# Altium schematic symbol library jlcpcb_2025_04_capacitors_extended_1812.schlib: 342 symbols (part 4 of 7)
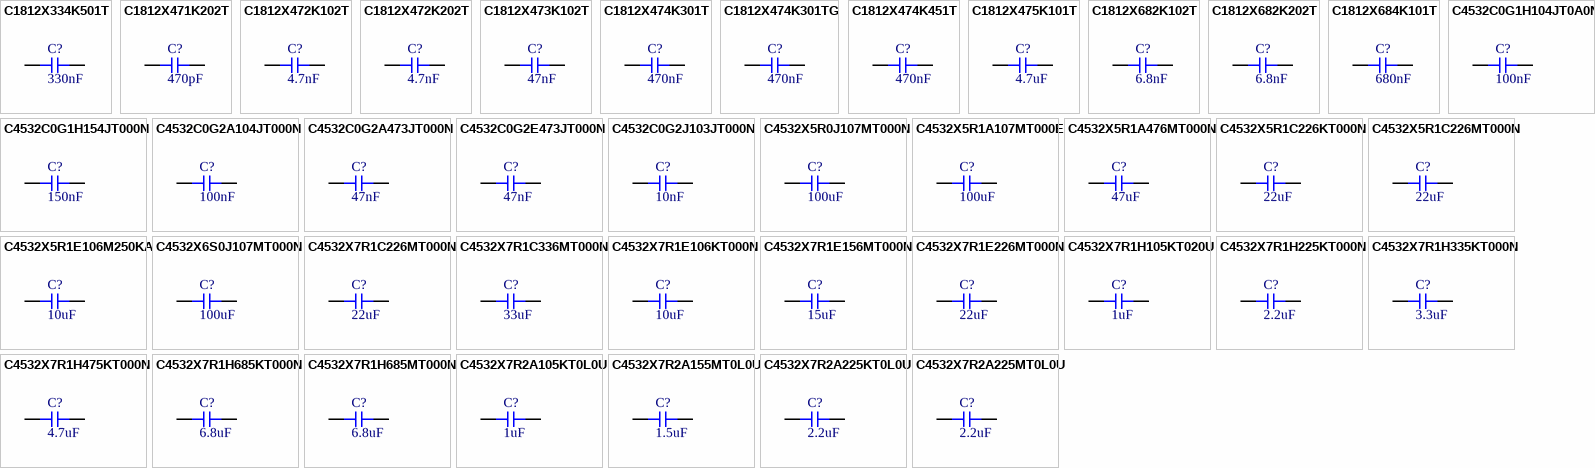
[diagram p11: symbols C1812X334K501T to C4532X7R2A225MT0L0U]

## C4532X7R1E156MT000N
designator C?  Capacitance: 15uF  (hidden comment: *)
Capacitor, Ceramic (MLCC), 15uF, ±20%, 25V, X7R, ±20%, SMD 1812; Manufacturer: TDK; Manufacturer Part Number: C4532X7R1E156MT000N; Package Size: 1812; JLCPCB Basic Part: No; JLCPCB Part Number: C342618; Supplier 1: LCSC; Category: Capacitors - MLCC; Supplier Part Number 1: C342618; Tolerance: ±20%; Voltage Rating: 25V; Temperature Coefficient: X7R; RoHS: Yes; ComponentLink1Description: Datasheet; ComponentLink1URL: https://wmsc.lcsc.com/wmsc/upload/file/pdf/v2/lcsc/2304140030_TDK-C4532X7R1E156MT000N_C342618.pdf; ComponentLink2Description: JLCPCB Part URL; ComponentLink2URL: https://jlcpcb.com/partdetail/C342618; ComponentLink3Description: LCSC Part URL; ComponentLink3URL: https://lcsc.com/product-detail/Multilayer-Ceramic-Capacitors-MLCC---SMD-SMT_TDK-TDK-C4532X7R1E156MT000N_C342618.html
footprint CAP-1812 (1812 (4532M) Capacitor)
pins: 1, 2

## C4532X7R1E226MT000N
designator C?  Capacitance: 22uF  (hidden comment: *)
Capacitor, Ceramic (MLCC), 22uF, ±20%, 25V, X7R, ±20%, SMD 1812; Manufacturer: TDK; Manufacturer Part Number: C4532X7R1E226MT000N; Package Size: 1812; JLCPCB Basic Part: No; JLCPCB Part Number: C76690; Supplier 1: LCSC; Category: Capacitors - MLCC; Supplier Part Number 1: C76690; Tolerance: ±20%; Voltage Rating: 25V; Temperature Coefficient: X7R; RoHS: Yes; ComponentLink1Description: Datasheet; ComponentLink1URL: https://wmsc.lcsc.com/wmsc/upload/file/pdf/v2/lcsc/2304140030_TDK-C4532X7R1E226MT000N_C76690.pdf; ComponentLink2Description: JLCPCB Part URL; ComponentLink2URL: https://jlcpcb.com/partdetail/C76690; ComponentLink3Description: LCSC Part URL; ComponentLink3URL: https://lcsc.com/product-detail/Multilayer-Ceramic-Capacitors-MLCC---SMD-SMT_TDK-TDK-C4532X7R1E226MT000N_C76690.html
footprint CAP-1812 (1812 (4532M) Capacitor)
pins: 1, 2

## C4532X7R1H105KT020U
designator C?  Capacitance: 1uF  (hidden comment: *)
Capacitor, Ceramic (MLCC), 1uF, ±10%, 50V, X7R, ±10%, SMD 1812; Manufacturer: TDK; Manufacturer Part Number: C4532X7R1H105KT020U; Package Size: 1812; JLCPCB Basic Part: No; JLCPCB Part Number: C694201; Supplier 1: LCSC; Category: Capacitors - MLCC; Supplier Part Number 1: C694201; Tolerance: ±10%; Voltage Rating: 50V; Temperature Coefficient: X7R; RoHS: Yes; ComponentLink1Description: Datasheet; ComponentLink1URL: https://wmsc.lcsc.com/wmsc/upload/file/pdf/v2/lcsc/2304140030_TDK-C4532X7R1H105KT020U_C694201.pdf; ComponentLink2Description: JLCPCB Part URL; ComponentLink2URL: https://jlcpcb.com/partdetail/C694201; ComponentLink3Description: LCSC Part URL; ComponentLink3URL: https://lcsc.com/product-detail/Multilayer-Ceramic-Capacitors-MLCC---SMD-SMT_TDK-TDK-C4532X7R1H105KT020U_C694201.html
footprint CAP-1812 (1812 (4532M) Capacitor)
pins: 1, 2

## C4532X7R1H225KT000N
designator C?  Capacitance: 2.2uF  (hidden comment: *)
Capacitor, Ceramic (MLCC), 2.2uF, ±10%, 50V, X7R, ±10%, SMD 1812; Manufacturer: TDK; Manufacturer Part Number: C4532X7R1H225KT000N; Package Size: 1812; JLCPCB Basic Part: No; JLCPCB Part Number: C342654; Supplier 1: LCSC; Category: Capacitors - MLCC; Supplier Part Number 1: C342654; Tolerance: ±10%; Voltage Rating: 50V; Temperature Coefficient: X7R; RoHS: Yes; ComponentLink1Description: Datasheet; ComponentLink1URL: https://wmsc.lcsc.com/wmsc/upload/file/pdf/v2/lcsc/2304140030_TDK-C4532X7R1H225KT000N_C342654.pdf; ComponentLink2Description: JLCPCB Part URL; ComponentLink2URL: https://jlcpcb.com/partdetail/C342654; ComponentLink3Description: LCSC Part URL; ComponentLink3URL: https://lcsc.com/product-detail/Multilayer-Ceramic-Capacitors-MLCC---SMD-SMT_TDK-TDK-C4532X7R1H225KT000N_C342654.html
footprint CAP-1812 (1812 (4532M) Capacitor)
pins: 1, 2

## C4532X7R1H335KT000N
designator C?  Capacitance: 3.3uF  (hidden comment: *)
Capacitor, Ceramic (MLCC), 3.3uF, ±10%, 50V, X7R, ±10%, SMD 1812; Manufacturer: TDK; Manufacturer Part Number: C4532X7R1H335KT000N; Package Size: 1812; JLCPCB Basic Part: No; JLCPCB Part Number: C342636; Supplier 1: LCSC; Category: Capacitors - MLCC; Supplier Part Number 1: C342636; Tolerance: ±10%; Voltage Rating: 50V; Temperature Coefficient: X7R; RoHS: Yes; ComponentLink1Description: Datasheet; ComponentLink1URL: https://wmsc.lcsc.com/wmsc/upload/file/pdf/v2/lcsc/2304140030_TDK-C4532X7R1H335KT000N_C342636.pdf; ComponentLink2Description: JLCPCB Part URL; ComponentLink2URL: https://jlcpcb.com/partdetail/C342636; ComponentLink3Description: LCSC Part URL; ComponentLink3URL: https://lcsc.com/product-detail/Multilayer-Ceramic-Capacitors-MLCC---SMD-SMT_TDK-TDK-C4532X7R1H335KT000N_C342636.html
footprint CAP-1812 (1812 (4532M) Capacitor)
pins: 1, 2

## C4532X7R1H475KT000N
designator C?  Capacitance: 4.7uF  (hidden comment: *)
Capacitor, Ceramic (MLCC), 4.7uF, ±10%, 50V, X7R, ±10%, SMD 1812; Manufacturer: TDK; Manufacturer Part Number: C4532X7R1H475KT000N; Package Size: 1812; JLCPCB Basic Part: No; JLCPCB Part Number: C342629; Supplier 1: LCSC; Category: Capacitors - MLCC; Supplier Part Number 1: C342629; Tolerance: ±10%; Voltage Rating: 50V; Temperature Coefficient: X7R; RoHS: Yes; ComponentLink1Description: Datasheet; ComponentLink1URL: https://wmsc.lcsc.com/wmsc/upload/file/pdf/v2/lcsc/2304140030_TDK-C4532X7R1H475KT000N_C342629.pdf; ComponentLink2Description: JLCPCB Part URL; ComponentLink2URL: https://jlcpcb.com/partdetail/C342629; ComponentLink3Description: LCSC Part URL; ComponentLink3URL: https://lcsc.com/product-detail/Multilayer-Ceramic-Capacitors-MLCC---SMD-SMT_TDK-TDK-C4532X7R1H475KT000N_C342629.html
footprint CAP-1812 (1812 (4532M) Capacitor)
pins: 1, 2

## C4532X7R1H685KT000N
designator C?  Capacitance: 6.8uF  (hidden comment: *)
Capacitor, Ceramic (MLCC), 6.8uF, ±10%, 50V, X7R, ±10%, SMD 1812; Manufacturer: TDK; Manufacturer Part Number: C4532X7R1H685KT000N; Package Size: 1812; JLCPCB Basic Part: No; JLCPCB Part Number: C342619; Supplier 1: LCSC; Category: Capacitors - MLCC; Supplier Part Number 1: C342619; Tolerance: ±10%; Voltage Rating: 50V; Temperature Coefficient: X7R; RoHS: Yes; ComponentLink1Description: Datasheet; ComponentLink1URL: https://wmsc.lcsc.com/wmsc/upload/file/pdf/v2/lcsc/2304140030_TDK-C4532X7R1H685KT000N_C342619.pdf; ComponentLink2Description: JLCPCB Part URL; ComponentLink2URL: https://jlcpcb.com/partdetail/C342619; ComponentLink3Description: LCSC Part URL; ComponentLink3URL: https://lcsc.com/product-detail/Multilayer-Ceramic-Capacitors-MLCC---SMD-SMT_TDK-TDK-C4532X7R1H685KT000N_C342619.html
footprint CAP-1812 (1812 (4532M) Capacitor)
pins: 1, 2

## C4532X7R1H685MT000N
designator C?  Capacitance: 6.8uF  (hidden comment: *)
Capacitor, Ceramic (MLCC), 6.8uF, ±20%, 50V, X7R, ±20%, SMD 1812; Manufacturer: TDK; Manufacturer Part Number: C4532X7R1H685MT000N; Package Size: 1812; JLCPCB Basic Part: No; JLCPCB Part Number: C445683; Supplier 1: LCSC; Category: Capacitors - MLCC; Supplier Part Number 1: C445683; Tolerance: ±20%; Voltage Rating: 50V; Temperature Coefficient: X7R; RoHS: Yes; ComponentLink1Description: Datasheet; ComponentLink1URL: https://wmsc.lcsc.com/wmsc/upload/file/pdf/v2/lcsc/2304140030_TDK-C4532X7R1H685MT000N_C445683.pdf; ComponentLink2Description: JLCPCB Part URL; ComponentLink2URL: https://jlcpcb.com/partdetail/C445683; ComponentLink3Description: LCSC Part URL; ComponentLink3URL: https://lcsc.com/product-detail/Multilayer-Ceramic-Capacitors-MLCC---SMD-SMT_TDK-TDK-C4532X7R1H685MT000N_C445683.html
footprint CAP-1812 (1812 (4532M) Capacitor)
pins: 1, 2

## C4532X7R2A105KT0L0U
designator C?  Capacitance: 1uF  (hidden comment: *)
Capacitor, Ceramic (MLCC), 1uF, ±10%, 100V, X7R, ±10%, SMD 1812; Manufacturer: TDK; Manufacturer Part Number: C4532X7R2A105KT0L0U; Package Size: 1812; JLCPCB Basic Part: No; JLCPCB Part Number: C694477; Supplier 1: LCSC; Category: Capacitors - MLCC; Supplier Part Number 1: C694477; Tolerance: ±10%; Voltage Rating: 100V; Temperature Coefficient: X7R; RoHS: Yes; ComponentLink1Description: Datasheet; ComponentLink1URL: https://wmsc.lcsc.com/wmsc/upload/file/pdf/v2/lcsc/2304140030_TDK-C4532X7R2A105KT0L0U_C694477.pdf; ComponentLink2Description: JLCPCB Part URL; ComponentLink2URL: https://jlcpcb.com/partdetail/C694477; ComponentLink3Description: LCSC Part URL; ComponentLink3URL: https://lcsc.com/product-detail/Multilayer-Ceramic-Capacitors-MLCC---SMD-SMT_TDK-TDK-C4532X7R2A105KT0L0U_C694477.html
footprint CAP-1812 (1812 (4532M) Capacitor)
pins: 1, 2

## C4532X7R2A155MT0L0U
designator C?  Capacitance: 1.5uF  (hidden comment: *)
Capacitor, Ceramic (MLCC), 1.5uF, ±20%, 100V, X7R, ±20%, SMD 1812; Manufacturer: TDK; Manufacturer Part Number: C4532X7R2A155MT0L0U; Package Size: 1812; JLCPCB Basic Part: No; JLCPCB Part Number: C432932; Supplier 1: LCSC; Category: Capacitors - MLCC; Supplier Part Number 1: C432932; Tolerance: ±20%; Voltage Rating: 100V; Temperature Coefficient: X7R; RoHS: Yes; ComponentLink1Description: Datasheet; ComponentLink1URL: https://wmsc.lcsc.com/wmsc/upload/file/pdf/v2/lcsc/2001091702_TDK-C4532X7R2A155MT0L0U_C432932.pdf; ComponentLink2Description: JLCPCB Part URL; ComponentLink2URL: https://jlcpcb.com/partdetail/C432932; ComponentLink3Description: LCSC Part URL; ComponentLink3URL: https://lcsc.com/product-detail/Multilayer-Ceramic-Capacitors-MLCC---SMD-SMT_TDK-TDK-C4532X7R2A155MT0L0U_C432932.html
footprint CAP-1812 (1812 (4532M) Capacitor)
pins: 1, 2

## C4532X7R2A225KT0L0U
designator C?  Capacitance: 2.2uF  (hidden comment: *)
Capacitor, Ceramic (MLCC), 2.2uF, ±10%, 100V, X7R, ±10%, SMD 1812; Manufacturer: TDK; Manufacturer Part Number: C4532X7R2A225KT0L0U; Package Size: 1812; JLCPCB Basic Part: No; JLCPCB Part Number: C329963; Supplier 1: LCSC; Category: Capacitors - MLCC; Supplier Part Number 1: C329963; Tolerance: ±10%; Voltage Rating: 100V; Temperature Coefficient: X7R; RoHS: Yes; ComponentLink1Description: Datasheet; ComponentLink1URL: https://wmsc.lcsc.com/wmsc/upload/file/pdf/v2/lcsc/2304140030_TDK-C4532X7R2A225KT0L0U_C329963.pdf; ComponentLink2Description: JLCPCB Part URL; ComponentLink2URL: https://jlcpcb.com/partdetail/C329963; ComponentLink3Description: LCSC Part URL; ComponentLink3URL: https://lcsc.com/product-detail/Multilayer-Ceramic-Capacitors-MLCC---SMD-SMT_TDK-TDK-C4532X7R2A225KT0L0U_C329963.html
footprint CAP-1812 (1812 (4532M) Capacitor)
pins: 1, 2

## C4532X7R2A225MT0L0U
designator C?  Capacitance: 2.2uF  (hidden comment: *)
Capacitor, Ceramic (MLCC), 2.2uF, ±20%, 100V, X7R, ±20%, SMD 1812; Manufacturer: TDK; Manufacturer Part Number: C4532X7R2A225MT0L0U; Package Size: 1812; JLCPCB Basic Part: No; JLCPCB Part Number: C342647; Supplier 1: LCSC; Category: Capacitors - MLCC; Supplier Part Number 1: C342647; Tolerance: ±20%; Voltage Rating: 100V; Temperature Coefficient: X7R; RoHS: Yes; ComponentLink1Description: Datasheet; ComponentLink1URL: https://wmsc.lcsc.com/wmsc/upload/file/pdf/v2/lcsc/2304140030_TDK-C4532X7R2A225MT0L0U_C342647.pdf; ComponentLink2Description: JLCPCB Part URL; ComponentLink2URL: https://jlcpcb.com/partdetail/C342647; ComponentLink3Description: LCSC Part URL; ComponentLink3URL: https://lcsc.com/product-detail/Multilayer-Ceramic-Capacitors-MLCC---SMD-SMT_TDK-TDK-C4532X7R2A225MT0L0U_C342647.html
footprint CAP-1812 (1812 (4532M) Capacitor)
pins: 1, 2

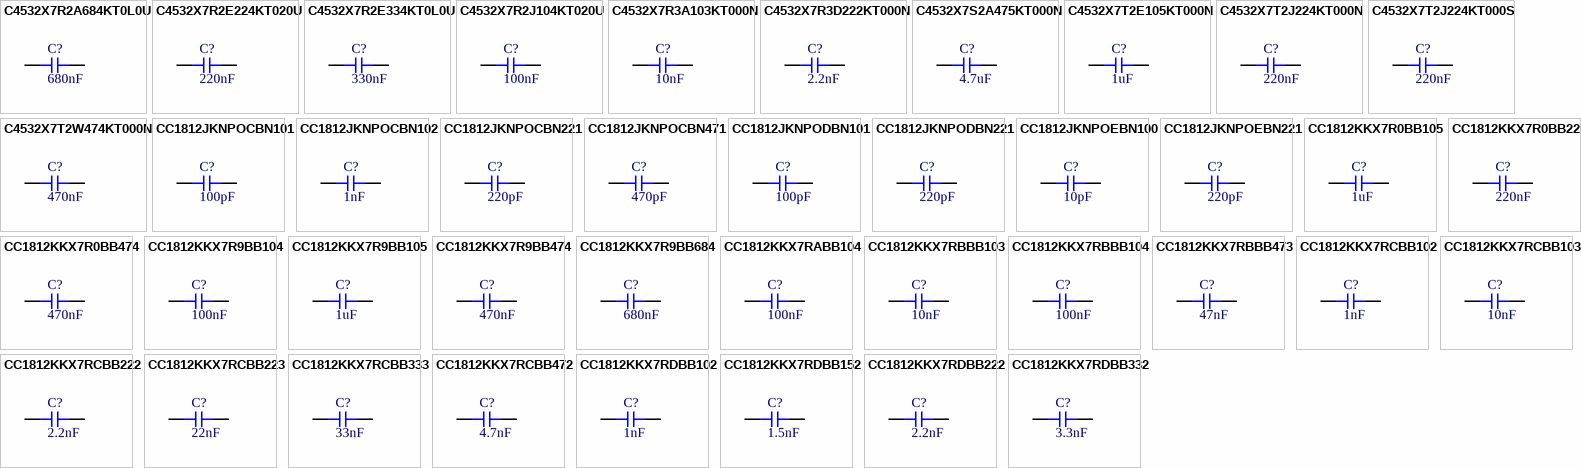
[diagram p4: symbols C4532X7R2A684KT0L0U to CC1812KKX7RDBB332]

## C4532X7R2A684KT0L0U
designator C?  Capacitance: 680nF  (hidden comment: *)
Capacitor, Ceramic (MLCC), 680nF, ±10%, 100V, X7R, ±10%, SMD 1812; Manufacturer: TDK; Manufacturer Part Number: C4532X7R2A684KT0L0U; Package Size: 1812; JLCPCB Basic Part: No; JLCPCB Part Number: C694478; Supplier 1: LCSC; Category: Capacitors - MLCC; Supplier Part Number 1: C694478; Tolerance: ±10%; Voltage Rating: 100V; Temperature Coefficient: X7R; RoHS: Yes; ComponentLink1Description: Datasheet; ComponentLink1URL: https://wmsc.lcsc.com/wmsc/upload/file/pdf/v2/lcsc/2304140030_TDK-C4532X7R2A684KT0L0U_C694478.pdf; ComponentLink2Description: JLCPCB Part URL; ComponentLink2URL: https://jlcpcb.com/partdetail/C694478; ComponentLink3Description: LCSC Part URL; ComponentLink3URL: https://lcsc.com/product-detail/Multilayer-Ceramic-Capacitors-MLCC---SMD-SMT_TDK-TDK-C4532X7R2A684KT0L0U_C694478.html
footprint CAP-1812 (1812 (4532M) Capacitor)
pins: 1, 2

## C4532X7R2E224KT020U
designator C?  Capacitance: 220nF  (hidden comment: *)
Capacitor, Ceramic (MLCC), 220nF, ±10%, 250V, X7R, ±10%, SMD 1812; Manufacturer: TDK; Manufacturer Part Number: C4532X7R2E224KT020U; Package Size: 1812; JLCPCB Basic Part: No; JLCPCB Part Number: C695366; Supplier 1: LCSC; Category: Capacitors - MLCC; Supplier Part Number 1: C695366; Tolerance: ±10%; Voltage Rating: 250V; Temperature Coefficient: X7R; RoHS: Yes; ComponentLink1Description: Datasheet; ComponentLink1URL: https://wmsc.lcsc.com/wmsc/upload/file/pdf/v2/lcsc/2304140030_TDK-C4532X7R2E224KT020U_C695366.pdf; ComponentLink2Description: JLCPCB Part URL; ComponentLink2URL: https://jlcpcb.com/partdetail/C695366; ComponentLink3Description: LCSC Part URL; ComponentLink3URL: https://lcsc.com/product-detail/Multilayer-Ceramic-Capacitors-MLCC---SMD-SMT_TDK-TDK-C4532X7R2E224KT020U_C695366.html
footprint CAP-1812 (1812 (4532M) Capacitor)
pins: 1, 2

## C4532X7R2E334KT0L0U
designator C?  Capacitance: 330nF  (hidden comment: *)
Capacitor, Ceramic (MLCC), 330nF, ±10%, 250V, X7R, ±10%, SMD 1812; Manufacturer: TDK; Manufacturer Part Number: C4532X7R2E334KT0L0U; Package Size: 1812; JLCPCB Basic Part: No; JLCPCB Part Number: C342655; Supplier 1: LCSC; Category: Capacitors - MLCC; Supplier Part Number 1: C342655; Tolerance: ±10%; Voltage Rating: 250V; Temperature Coefficient: X7R; RoHS: Yes; ComponentLink1Description: Datasheet; ComponentLink1URL: https://wmsc.lcsc.com/wmsc/upload/file/pdf/v2/lcsc/2304140030_TDK-C4532X7R2E334KT0L0U_C342655.pdf; ComponentLink2Description: JLCPCB Part URL; ComponentLink2URL: https://jlcpcb.com/partdetail/C342655; ComponentLink3Description: LCSC Part URL; ComponentLink3URL: https://lcsc.com/product-detail/Multilayer-Ceramic-Capacitors-MLCC---SMD-SMT_TDK-TDK-C4532X7R2E334KT0L0U_C342655.html
footprint CAP-1812 (1812 (4532M) Capacitor)
pins: 1, 2

## C4532X7R2J104KT020U
designator C?  Capacitance: 100nF  (hidden comment: *)
Capacitor, Ceramic (MLCC), 100nF, ±10%, 630V, X7R, ±10%, SMD 1812; Manufacturer: TDK; Manufacturer Part Number: C4532X7R2J104KT020U; Package Size: 1812; JLCPCB Basic Part: No; JLCPCB Part Number: C76691; Supplier 1: LCSC; Category: Capacitors - MLCC; Supplier Part Number 1: C76691; Tolerance: ±10%; Voltage Rating: 630V; Temperature Coefficient: X7R; RoHS: Yes; ComponentLink1Description: Datasheet; ComponentLink1URL: https://wmsc.lcsc.com/wmsc/upload/file/pdf/v2/lcsc/2304140030_TDK-C4532X7R2J104KT020U_C76691.pdf; ComponentLink2Description: JLCPCB Part URL; ComponentLink2URL: https://jlcpcb.com/partdetail/C76691; ComponentLink3Description: LCSC Part URL; ComponentLink3URL: https://lcsc.com/product-detail/Multilayer-Ceramic-Capacitors-MLCC---SMD-SMT_TDK-TDK-C4532X7R2J104KT020U_C76691.html
footprint CAP-1812 (1812 (4532M) Capacitor)
pins: 1, 2

## C4532X7R3A103KT000N
designator C?  Capacitance: 10nF  (hidden comment: *)
Capacitor, Ceramic (MLCC), 10nF, ±10%, 1kV, X7R, ±10%, SMD 1812; Manufacturer: TDK; Manufacturer Part Number: C4532X7R3A103KT000N; Package Size: 1812; JLCPCB Basic Part: No; JLCPCB Part Number: C342656; Supplier 1: LCSC; Category: Capacitors - MLCC; Supplier Part Number 1: C342656; Tolerance: ±10%; Voltage Rating: 1kV; Temperature Coefficient: X7R; RoHS: Yes; ComponentLink1Description: Datasheet; ComponentLink1URL: https://wmsc.lcsc.com/wmsc/upload/file/pdf/v2/lcsc/2304140030_TDK-C4532X7R3A103KT000N_C342656.pdf; ComponentLink2Description: JLCPCB Part URL; ComponentLink2URL: https://jlcpcb.com/partdetail/C342656; ComponentLink3Description: LCSC Part URL; ComponentLink3URL: https://lcsc.com/product-detail/Multilayer-Ceramic-Capacitors-MLCC---SMD-SMT_TDK-TDK-C4532X7R3A103KT000N_C342656.html
footprint CAP-1812 (1812 (4532M) Capacitor)
pins: 1, 2

## C4532X7R3D222KT000N
designator C?  Capacitance: 2.2nF  (hidden comment: *)
Capacitor, Ceramic (MLCC), 2.2nF, ±10%, 2kV, X7R, ±10%, SMD 1812; Manufacturer: TDK; Manufacturer Part Number: C4532X7R3D222KT000N; Package Size: 1812; JLCPCB Basic Part: No; JLCPCB Part Number: C342702; Supplier 1: LCSC; Category: Capacitors - MLCC; Supplier Part Number 1: C342702; Tolerance: ±10%; Voltage Rating: 2kV; Temperature Coefficient: X7R; RoHS: Yes; ComponentLink1Description: Datasheet; ComponentLink1URL: https://wmsc.lcsc.com/wmsc/upload/file/pdf/v2/lcsc/2304140030_TDK-C4532X7R3D222KT000N_C342702.pdf; ComponentLink2Description: JLCPCB Part URL; ComponentLink2URL: https://jlcpcb.com/partdetail/C342702; ComponentLink3Description: LCSC Part URL; ComponentLink3URL: https://lcsc.com/product-detail/Multilayer-Ceramic-Capacitors-MLCC---SMD-SMT_TDK-TDK-C4532X7R3D222KT000N_C342702.html
footprint CAP-1812 (1812 (4532M) Capacitor)
pins: 1, 2

## C4532X7S2A475KT000N
designator C?  Capacitance: 4.7uF  (hidden comment: *)
Capacitor, Ceramic (MLCC), 4.7uF, ±10%, 100V, X7S, ±10%, SMD 1812; Manufacturer: TDK; Manufacturer Part Number: C4532X7S2A475KT000N; Package Size: 1812; JLCPCB Basic Part: No; JLCPCB Part Number: C432933; Supplier 1: LCSC; Category: Capacitors - MLCC; Supplier Part Number 1: C432933; Tolerance: ±10%; Voltage Rating: 100V; Temperature Coefficient: X7S; RoHS: Yes; ComponentLink1Description: Datasheet; ComponentLink1URL: https://wmsc.lcsc.com/wmsc/upload/file/pdf/v2/lcsc/2304140030_TDK-C4532X7S2A475KT000N_C432933.pdf; ComponentLink2Description: JLCPCB Part URL; ComponentLink2URL: https://jlcpcb.com/partdetail/C432933; ComponentLink3Description: LCSC Part URL; ComponentLink3URL: https://lcsc.com/product-detail/Multilayer-Ceramic-Capacitors-MLCC---SMD-SMT_TDK-TDK-C4532X7S2A475KT000N_C432933.html
footprint CAP-1812 (1812 (4532M) Capacitor)
pins: 1, 2

## C4532X7T2E105KT000N
designator C?  Capacitance: 1uF  (hidden comment: *)
Capacitor, Ceramic (MLCC), 1uF, ±10%, 250V, X7T, ±10%, SMD 1812; Manufacturer: TDK; Manufacturer Part Number: C4532X7T2E105KT000N; Package Size: 1812; JLCPCB Basic Part: No; JLCPCB Part Number: C342623; Supplier 1: LCSC; Category: Capacitors - MLCC; Supplier Part Number 1: C342623; Tolerance: ±10%; Voltage Rating: 250V; Temperature Coefficient: X7T; RoHS: Yes; ComponentLink1Description: Datasheet; ComponentLink1URL: https://wmsc.lcsc.com/wmsc/upload/file/pdf/v2/lcsc/2304140030_TDK-C4532X7T2E105KT000N_C342623.pdf; ComponentLink2Description: JLCPCB Part URL; ComponentLink2URL: https://jlcpcb.com/partdetail/C342623; ComponentLink3Description: LCSC Part URL; ComponentLink3URL: https://lcsc.com/product-detail/Multilayer-Ceramic-Capacitors-MLCC---SMD-SMT_TDK-TDK-C4532X7T2E105KT000N_C342623.html
footprint CAP-1812 (1812 (4532M) Capacitor)
pins: 1, 2

## C4532X7T2J224KT000N
designator C?  Capacitance: 220nF  (hidden comment: *)
Capacitor, Ceramic (MLCC), 220nF, ±10%, 630V, X7T, ±10%, SMD 1812; Manufacturer: TDK; Manufacturer Part Number: C4532X7T2J224KT000N; Package Size: 1812; JLCPCB Basic Part: No; JLCPCB Part Number: C342627; Supplier 1: LCSC; Category: Capacitors - MLCC; Supplier Part Number 1: C342627; Tolerance: ±10%; Voltage Rating: 630V; Temperature Coefficient: X7T; RoHS: Yes; ComponentLink1Description: Datasheet; ComponentLink1URL: https://wmsc.lcsc.com/wmsc/upload/file/pdf/v2/lcsc/2304140030_TDK-C4532X7T2J224KT000N_C342627.pdf; ComponentLink2Description: JLCPCB Part URL; ComponentLink2URL: https://jlcpcb.com/partdetail/C342627; ComponentLink3Description: LCSC Part URL; ComponentLink3URL: https://lcsc.com/product-detail/Multilayer-Ceramic-Capacitors-MLCC---SMD-SMT_TDK-TDK-C4532X7T2J224KT000N_C342627.html
footprint CAP-1812 (1812 (4532M) Capacitor)
pins: 1, 2

## C4532X7T2J224KT000S
designator C?  Capacitance: 220nF  (hidden comment: *)
Capacitor, Ceramic (MLCC), 220nF, ±10%, 630V, ±10%, SMD 1812; Manufacturer: TDK; Manufacturer Part Number: C4532X7T2J224KT000S; Package Size: 1812; JLCPCB Basic Part: No; JLCPCB Part Number: C360349; Supplier 1: LCSC; Category: Capacitors - MLCC; Supplier Part Number 1: C360349; Tolerance: ±10%; Voltage Rating: 630V; RoHS: Yes; ComponentLink1Description: Datasheet; ComponentLink2Description: JLCPCB Part URL; ComponentLink2URL: https://jlcpcb.com/partdetail/C360349; ComponentLink3Description: LCSC Part URL; ComponentLink3URL: https://lcsc.com/product-detail/Multilayer-Ceramic-Capacitors-MLCC---SMD-SMT_TDK-TDK-C4532X7T2J224KT000S_C360349.html
footprint CAP-1812 (1812 (4532M) Capacitor)
pins: 1, 2

## C4532X7T2W474KT000N
designator C?  Capacitance: 470nF  (hidden comment: *)
Capacitor, Ceramic (MLCC), 470nF, ±10%, 450V, X7T, ±10%, SMD 1812; Manufacturer: TDK; Manufacturer Part Number: C4532X7T2W474KT000N; Package Size: 1812; JLCPCB Basic Part: No; JLCPCB Part Number: C342626; Supplier 1: LCSC; Category: Capacitors - MLCC; Supplier Part Number 1: C342626; Tolerance: ±10%; Voltage Rating: 450V; Temperature Coefficient: X7T; RoHS: Yes; ComponentLink1Description: Datasheet; ComponentLink1URL: https://wmsc.lcsc.com/wmsc/upload/file/pdf/v2/lcsc/2304140030_TDK-C4532X7T2W474KT000N_C342626.pdf; ComponentLink2Description: JLCPCB Part URL; ComponentLink2URL: https://jlcpcb.com/partdetail/C342626; ComponentLink3Description: LCSC Part URL; ComponentLink3URL: https://lcsc.com/product-detail/Multilayer-Ceramic-Capacitors-MLCC---SMD-SMT_TDK-TDK-C4532X7T2W474KT000N_C342626.html
footprint CAP-1812 (1812 (4532M) Capacitor)
pins: 1, 2

## CC1812JKNPOCBN101
designator C?  Capacitance: 100pF  (hidden comment: *)
Capacitor, Ceramic (MLCC), 100pF, ±5%, 1kV, NP0, ±5%, SMD 1812; Manufacturer: YAGEO; Manufacturer Part Number: CC1812JKNPOCBN101; Package Size: 1812; JLCPCB Basic Part: No; JLCPCB Part Number: C577307; Supplier 1: LCSC; Category: Capacitors - MLCC; Supplier Part Number 1: C577307; Tolerance: ±5%; Voltage Rating: 1kV; Temperature Coefficient: NP0; RoHS: Yes; ComponentLink1Description: Datasheet; ComponentLink1URL: https://wmsc.lcsc.com/wmsc/upload/file/pdf/v2/lcsc/2009261809_YAGEO-CC1812JKNPOCBN101_C577307.pdf; ComponentLink2Description: JLCPCB Part URL; ComponentLink2URL: https://jlcpcb.com/partdetail/C577307; ComponentLink3Description: LCSC Part URL; ComponentLink3URL: https://lcsc.com/product-detail/Multilayer-Ceramic-Capacitors-MLCC---SMD-SMT_YAGEO-YAGEO-CC1812JKNPOCBN101_C577307.html
footprint CAP-1812 (1812 (4532M) Capacitor)
pins: 1, 2

## CC1812JKNPOCBN102
designator C?  Capacitance: 1nF  (hidden comment: *)
Capacitor, Ceramic (MLCC), 1nF, ±5%, 1kV, NP0, ±5%, SMD 1812; Manufacturer: YAGEO; Manufacturer Part Number: CC1812JKNPOCBN102; Package Size: 1812; JLCPCB Basic Part: No; JLCPCB Part Number: C577308; Supplier 1: LCSC; Category: Capacitors - MLCC; Supplier Part Number 1: C577308; Tolerance: ±5%; Voltage Rating: 1kV; Temperature Coefficient: NP0; RoHS: Yes; ComponentLink1Description: Datasheet; ComponentLink1URL: https://wmsc.lcsc.com/wmsc/upload/file/pdf/v2/lcsc/2204271615_YAGEO-CC1812JKNPOCBN102_C577308.pdf; ComponentLink2Description: JLCPCB Part URL; ComponentLink2URL: https://jlcpcb.com/partdetail/C577308; ComponentLink3Description: LCSC Part URL; ComponentLink3URL: https://lcsc.com/product-detail/Multilayer-Ceramic-Capacitors-MLCC---SMD-SMT_YAGEO-YAGEO-CC1812JKNPOCBN102_C577308.html
footprint CAP-1812 (1812 (4532M) Capacitor)
pins: 1, 2

## CC1812JKNPOCBN221
designator C?  Capacitance: 220pF  (hidden comment: *)
Capacitor, Ceramic (MLCC), 220pF, ±5%, 1kV, NP0, ±5%, SMD 1812; Manufacturer: YAGEO; Manufacturer Part Number: CC1812JKNPOCBN221; Package Size: 1812; JLCPCB Basic Part: No; JLCPCB Part Number: C577312; Supplier 1: LCSC; Category: Capacitors - MLCC; Supplier Part Number 1: C577312; Tolerance: ±5%; Voltage Rating: 1kV; Temperature Coefficient: NP0; RoHS: Yes; ComponentLink1Description: Datasheet; ComponentLink1URL: https://wmsc.lcsc.com/wmsc/upload/file/pdf/v2/lcsc/2204271615_YAGEO-CC1812JKNPOCBN221_C577312.pdf; ComponentLink2Description: JLCPCB Part URL; ComponentLink2URL: https://jlcpcb.com/partdetail/C577312; ComponentLink3Description: LCSC Part URL; ComponentLink3URL: https://lcsc.com/product-detail/Multilayer-Ceramic-Capacitors-MLCC---SMD-SMT_YAGEO-YAGEO-CC1812JKNPOCBN221_C577312.html
footprint CAP-1812 (1812 (4532M) Capacitor)
pins: 1, 2

## CC1812JKNPOCBN471
designator C?  Capacitance: 470pF  (hidden comment: *)
Capacitor, Ceramic (MLCC), 470pF, ±5%, 1kV, NP0, ±5%, SMD 1812; Manufacturer: YAGEO; Manufacturer Part Number: CC1812JKNPOCBN471; Package Size: 1812; JLCPCB Basic Part: No; JLCPCB Part Number: C309508; Supplier 1: LCSC; Category: Capacitors - MLCC; Supplier Part Number 1: C309508; Tolerance: ±5%; Voltage Rating: 1kV; Temperature Coefficient: NP0; RoHS: Yes; ComponentLink1Description: Datasheet; ComponentLink1URL: https://wmsc.lcsc.com/wmsc/upload/file/pdf/v2/lcsc/2304140030_YAGEO-CC1812JKNPOCBN471_C309508.pdf; ComponentLink2Description: JLCPCB Part URL; ComponentLink2URL: https://jlcpcb.com/partdetail/C309508; ComponentLink3Description: LCSC Part URL; ComponentLink3URL: https://lcsc.com/product-detail/Multilayer-Ceramic-Capacitors-MLCC---SMD-SMT_YAGEO-YAGEO-CC1812JKNPOCBN471_C309508.html
footprint CAP-1812 (1812 (4532M) Capacitor)
pins: 1, 2

## CC1812JKNPODBN101
designator C?  Capacitance: 100pF  (hidden comment: *)
Capacitor, Ceramic (MLCC), 100pF, ±5%, 2kV, NP0, ±5%, SMD 1812; Manufacturer: YAGEO; Manufacturer Part Number: CC1812JKNPODBN101; Package Size: 1812; JLCPCB Basic Part: No; JLCPCB Part Number: C577319; Supplier 1: LCSC; Category: Capacitors - MLCC; Supplier Part Number 1: C577319; Tolerance: ±5%; Voltage Rating: 2kV; Temperature Coefficient: NP0; RoHS: Yes; ComponentLink1Description: Datasheet; ComponentLink1URL: https://wmsc.lcsc.com/wmsc/upload/file/pdf/v2/lcsc/2205251700_YAGEO-CC1812JKNPODBN101_C577319.pdf; ComponentLink2Description: JLCPCB Part URL; ComponentLink2URL: https://jlcpcb.com/partdetail/C577319; ComponentLink3Description: LCSC Part URL; ComponentLink3URL: https://lcsc.com/product-detail/Multilayer-Ceramic-Capacitors-MLCC---SMD-SMT_YAGEO-YAGEO-CC1812JKNPODBN101_C577319.html
footprint CAP-1812 (1812 (4532M) Capacitor)
pins: 1, 2

## CC1812JKNPODBN221
designator C?  Capacitance: 220pF  (hidden comment: *)
Capacitor, Ceramic (MLCC), 220pF, ±5%, 2kV, ±5%, SMD 1812; Manufacturer: YAGEO; Manufacturer Part Number: CC1812JKNPODBN221; Package Size: 1812; JLCPCB Basic Part: No; JLCPCB Part Number: C577321; Supplier 1: LCSC; Category: Capacitors - MLCC; Supplier Part Number 1: C577321; Tolerance: ±5%; Voltage Rating: 2kV; RoHS: Yes; ComponentLink1Description: Datasheet; ComponentLink1URL: https://wmsc.lcsc.com/wmsc/upload/file/pdf/v2/lcsc/2211161830_YAGEO-CC1812JKNPODBN221_C577321.pdf; ComponentLink2Description: JLCPCB Part URL; ComponentLink2URL: https://jlcpcb.com/partdetail/C577321; ComponentLink3Description: LCSC Part URL; ComponentLink3URL: https://lcsc.com/product-detail/Multilayer-Ceramic-Capacitors-MLCC---SMD-SMT_YAGEO-YAGEO-CC1812JKNPODBN221_C577321.html
footprint CAP-1812 (1812 (4532M) Capacitor)
pins: 1, 2

## CC1812JKNPOEBN100
designator C?  Capacitance: 10pF  (hidden comment: *)
Capacitor, Ceramic (MLCC), 10pF, ±5%, 3kV, NP0, ±5%, SMD 1812; Manufacturer: YAGEO; Manufacturer Part Number: CC1812JKNPOEBN100; Package Size: 1812; JLCPCB Basic Part: No; JLCPCB Part Number: C577323; Supplier 1: LCSC; Category: Capacitors - MLCC; Supplier Part Number 1: C577323; Tolerance: ±5%; Voltage Rating: 3kV; Temperature Coefficient: NP0; RoHS: Yes; ComponentLink1Description: Datasheet; ComponentLink1URL: https://wmsc.lcsc.com/wmsc/upload/file/pdf/v2/lcsc/2311211121_YAGEO-CC1812JKNPOEBN100_C577323.pdf; ComponentLink2Description: JLCPCB Part URL; ComponentLink2URL: https://jlcpcb.com/partdetail/C577323; ComponentLink3Description: LCSC Part URL; ComponentLink3URL: https://lcsc.com/product-detail/Multilayer-Ceramic-Capacitors-MLCC---SMD-SMT_YAGEO-YAGEO-CC1812JKNPOEBN100_C577323.html
footprint CAP-1812 (1812 (4532M) Capacitor)
pins: 1, 2

## CC1812JKNPOEBN221
designator C?  Capacitance: 220pF  (hidden comment: *)
Capacitor, Ceramic (MLCC), 220pF, ±5%, 3kV, NP0, ±5%, SMD 1812; Manufacturer: YAGEO; Manufacturer Part Number: CC1812JKNPOEBN221; Package Size: 1812; JLCPCB Basic Part: No; JLCPCB Part Number: C577325; Supplier 1: LCSC; Category: Capacitors - MLCC; Supplier Part Number 1: C577325; Tolerance: ±5%; Voltage Rating: 3kV; Temperature Coefficient: NP0; RoHS: Yes; ComponentLink1Description: Datasheet; ComponentLink1URL: https://wmsc.lcsc.com/wmsc/upload/file/pdf/v2/lcsc/2203221230_YAGEO-CC1812JKNPOEBN221_C577325.pdf; ComponentLink2Description: JLCPCB Part URL; ComponentLink2URL: https://jlcpcb.com/partdetail/C577325; ComponentLink3Description: LCSC Part URL; ComponentLink3URL: https://lcsc.com/product-detail/Multilayer-Ceramic-Capacitors-MLCC---SMD-SMT_YAGEO-YAGEO-CC1812JKNPOEBN221_C577325.html
footprint CAP-1812 (1812 (4532M) Capacitor)
pins: 1, 2

## CC1812KKX7R0BB105
designator C?  Capacitance: 1uF  (hidden comment: *)
Capacitor, Ceramic (MLCC), 1uF, ±10%, 100V, X7R, ±10%, SMD 1812; Manufacturer: YAGEO; Manufacturer Part Number: CC1812KKX7R0BB105; Package Size: 1812; JLCPCB Basic Part: No; JLCPCB Part Number: C577330; Supplier 1: LCSC; Category: Capacitors - MLCC; Supplier Part Number 1: C577330; Tolerance: ±10%; Voltage Rating: 100V; Temperature Coefficient: X7R; RoHS: Yes; ComponentLink1Description: Datasheet; ComponentLink1URL: https://wmsc.lcsc.com/wmsc/upload/file/pdf/v2/lcsc/2009261809_YAGEO-CC1812KKX7R0BB105_C577330.pdf; ComponentLink2Description: JLCPCB Part URL; ComponentLink2URL: https://jlcpcb.com/partdetail/C577330; ComponentLink3Description: LCSC Part URL; ComponentLink3URL: https://lcsc.com/product-detail/Multilayer-Ceramic-Capacitors-MLCC---SMD-SMT_YAGEO-YAGEO-CC1812KKX7R0BB105_C577330.html
footprint CAP-1812 (1812 (4532M) Capacitor)
pins: 1, 2

## CC1812KKX7R0BB224
designator C?  Capacitance: 220nF  (hidden comment: *)
Capacitor, Ceramic (MLCC), 220nF, ±10%, 100V, X7R, ±10%, SMD 1812; Manufacturer: YAGEO; Manufacturer Part Number: CC1812KKX7R0BB224; Package Size: 1812; JLCPCB Basic Part: No; JLCPCB Part Number: C577332; Supplier 1: LCSC; Category: Capacitors - MLCC; Supplier Part Number 1: C577332; Tolerance: ±10%; Voltage Rating: 100V; Temperature Coefficient: X7R; RoHS: Yes; ComponentLink1Description: Datasheet; ComponentLink1URL: https://wmsc.lcsc.com/wmsc/upload/file/pdf/v2/lcsc/2304140030_YAGEO-CC1812KKX7R0BB224_C577332.pdf; ComponentLink2Description: JLCPCB Part URL; ComponentLink2URL: https://jlcpcb.com/partdetail/C577332; ComponentLink3Description: LCSC Part URL; ComponentLink3URL: https://lcsc.com/product-detail/Multilayer-Ceramic-Capacitors-MLCC---SMD-SMT_YAGEO-YAGEO-CC1812KKX7R0BB224_C577332.html
footprint CAP-1812 (1812 (4532M) Capacitor)
pins: 1, 2

## CC1812KKX7R0BB474
designator C?  Capacitance: 470nF  (hidden comment: *)
Capacitor, Ceramic (MLCC), 470nF, ±10%, 100V, X7R, ±10%, SMD 1812; Manufacturer: YAGEO; Manufacturer Part Number: CC1812KKX7R0BB474; Package Size: 1812; JLCPCB Basic Part: No; JLCPCB Part Number: C309509; Supplier 1: LCSC; Category: Capacitors - MLCC; Supplier Part Number 1: C309509; Tolerance: ±10%; Voltage Rating: 100V; Temperature Coefficient: X7R; RoHS: Yes; ComponentLink1Description: Datasheet; ComponentLink1URL: https://wmsc.lcsc.com/wmsc/upload/file/pdf/v2/lcsc/2304140030_YAGEO-CC1812KKX7R0BB474_C309509.pdf; ComponentLink2Description: JLCPCB Part URL; ComponentLink2URL: https://jlcpcb.com/partdetail/C309509; ComponentLink3Description: LCSC Part URL; ComponentLink3URL: https://lcsc.com/product-detail/Multilayer-Ceramic-Capacitors-MLCC---SMD-SMT_YAGEO-YAGEO-CC1812KKX7R0BB474_C309509.html
footprint CAP-1812 (1812 (4532M) Capacitor)
pins: 1, 2

## CC1812KKX7R9BB104
designator C?  Capacitance: 100nF  (hidden comment: *)
Capacitor, Ceramic (MLCC), 100nF, ±10%, 50V, X7R, ±10%, SMD 1812; Manufacturer: YAGEO; Manufacturer Part Number: CC1812KKX7R9BB104; Package Size: 1812; JLCPCB Basic Part: No; JLCPCB Part Number: C577335; Supplier 1: LCSC; Category: Capacitors - MLCC; Supplier Part Number 1: C577335; Tolerance: ±10%; Voltage Rating: 50V; Temperature Coefficient: X7R; RoHS: Yes; ComponentLink1Description: Datasheet; ComponentLink1URL: https://wmsc.lcsc.com/wmsc/upload/file/pdf/v2/lcsc/2008171234_YAGEO-CC1812KKX7R9BB104_C577335.pdf; ComponentLink2Description: JLCPCB Part URL; ComponentLink2URL: https://jlcpcb.com/partdetail/C577335; ComponentLink3Description: LCSC Part URL; ComponentLink3URL: https://lcsc.com/product-detail/Multilayer-Ceramic-Capacitors-MLCC---SMD-SMT_YAGEO-YAGEO-CC1812KKX7R9BB104_C577335.html
footprint CAP-1812 (1812 (4532M) Capacitor)
pins: 1, 2

## CC1812KKX7R9BB105
designator C?  Capacitance: 1uF  (hidden comment: *)
Capacitor, Ceramic (MLCC), 1uF, ±10%, 50V, X7R, ±10%, SMD 1812; Manufacturer: YAGEO; Manufacturer Part Number: CC1812KKX7R9BB105; Package Size: 1812; JLCPCB Basic Part: No; JLCPCB Part Number: C577336; Supplier 1: LCSC; Category: Capacitors - MLCC; Supplier Part Number 1: C577336; Tolerance: ±10%; Voltage Rating: 50V; Temperature Coefficient: X7R; RoHS: Yes; ComponentLink1Description: Datasheet; ComponentLink1URL: https://wmsc.lcsc.com/wmsc/upload/file/pdf/v2/lcsc/2202221130_YAGEO-CC1812KKX7R9BB105_C577336.pdf; ComponentLink2Description: JLCPCB Part URL; ComponentLink2URL: https://jlcpcb.com/partdetail/C577336; ComponentLink3Description: LCSC Part URL; ComponentLink3URL: https://lcsc.com/product-detail/Multilayer-Ceramic-Capacitors-MLCC---SMD-SMT_YAGEO-YAGEO-CC1812KKX7R9BB105_C577336.html
footprint CAP-1812 (1812 (4532M) Capacitor)
pins: 1, 2

## CC1812KKX7R9BB474
designator C?  Capacitance: 470nF  (hidden comment: *)
Capacitor, Ceramic (MLCC), 470nF, ±10%, 50V, X7R, ±10%, SMD 1812; Manufacturer: YAGEO; Manufacturer Part Number: CC1812KKX7R9BB474; Package Size: 1812; JLCPCB Basic Part: No; JLCPCB Part Number: C577339; Supplier 1: LCSC; Category: Capacitors - MLCC; Supplier Part Number 1: C577339; Tolerance: ±10%; Voltage Rating: 50V; Temperature Coefficient: X7R; RoHS: Yes; ComponentLink1Description: Datasheet; ComponentLink1URL: https://wmsc.lcsc.com/wmsc/upload/file/pdf/v2/lcsc/2304140030_YAGEO-CC1812KKX7R9BB474_C577339.pdf; ComponentLink2Description: JLCPCB Part URL; ComponentLink2URL: https://jlcpcb.com/partdetail/C577339; ComponentLink3Description: LCSC Part URL; ComponentLink3URL: https://lcsc.com/product-detail/Multilayer-Ceramic-Capacitors-MLCC---SMD-SMT_YAGEO-YAGEO-CC1812KKX7R9BB474_C577339.html
footprint CAP-1812 (1812 (4532M) Capacitor)
pins: 1, 2

## CC1812KKX7R9BB684
designator C?  Capacitance: 680nF  (hidden comment: *)
Capacitor, Ceramic (MLCC), 680nF, ±10%, 50V, X7R, ±10%, SMD 1812; Manufacturer: YAGEO; Manufacturer Part Number: CC1812KKX7R9BB684; Package Size: 1812; JLCPCB Basic Part: No; JLCPCB Part Number: C577340; Supplier 1: LCSC; Category: Capacitors - MLCC; Supplier Part Number 1: C577340; Tolerance: ±10%; Voltage Rating: 50V; Temperature Coefficient: X7R; RoHS: Yes; ComponentLink1Description: Datasheet; ComponentLink1URL: https://wmsc.lcsc.com/wmsc/upload/file/pdf/v2/lcsc/2208251800_YAGEO-CC1812KKX7R9BB684_C577340.pdf; ComponentLink2Description: JLCPCB Part URL; ComponentLink2URL: https://jlcpcb.com/partdetail/C577340; ComponentLink3Description: LCSC Part URL; ComponentLink3URL: https://lcsc.com/product-detail/Multilayer-Ceramic-Capacitors-MLCC---SMD-SMT_YAGEO-YAGEO-CC1812KKX7R9BB684_C577340.html
footprint CAP-1812 (1812 (4532M) Capacitor)
pins: 1, 2

## CC1812KKX7RABB104
designator C?  Capacitance: 100nF  (hidden comment: *)
Capacitor, Ceramic (MLCC), 100nF, ±10%, 200V, X7R, ±10%, SMD 1812; Manufacturer: YAGEO; Manufacturer Part Number: CC1812KKX7RABB104; Package Size: 1812; JLCPCB Basic Part: No; JLCPCB Part Number: C309510; Supplier 1: LCSC; Category: Capacitors - MLCC; Supplier Part Number 1: C309510; Tolerance: ±10%; Voltage Rating: 200V; Temperature Coefficient: X7R; RoHS: Yes; ComponentLink1Description: Datasheet; ComponentLink1URL: https://wmsc.lcsc.com/wmsc/upload/file/pdf/v2/lcsc/1810271054_YAGEO-CC1812KKX7RABB104_C309510.pdf; ComponentLink2Description: JLCPCB Part URL; ComponentLink2URL: https://jlcpcb.com/partdetail/C309510; ComponentLink3Description: LCSC Part URL; ComponentLink3URL: https://lcsc.com/product-detail/Multilayer-Ceramic-Capacitors-MLCC---SMD-SMT_YAGEO-YAGEO-CC1812KKX7RABB104_C309510.html
footprint CAP-1812 (1812 (4532M) Capacitor)
pins: 1, 2

## CC1812KKX7RBBB103
designator C?  Capacitance: 10nF  (hidden comment: *)
Capacitor, Ceramic (MLCC), 10nF, ±10%, 500V, X7R, ±10%, SMD 1812; Manufacturer: YAGEO; Manufacturer Part Number: CC1812KKX7RBBB103; Package Size: 1812; JLCPCB Basic Part: No; JLCPCB Part Number: C577342; Supplier 1: LCSC; Category: Capacitors - MLCC; Supplier Part Number 1: C577342; Tolerance: ±10%; Voltage Rating: 500V; Temperature Coefficient: X7R; RoHS: Yes; ComponentLink1Description: Datasheet; ComponentLink1URL: https://wmsc.lcsc.com/wmsc/upload/file/pdf/v2/lcsc/2304140030_YAGEO-CC1812KKX7RBBB103_C577342.pdf; ComponentLink2Description: JLCPCB Part URL; ComponentLink2URL: https://jlcpcb.com/partdetail/C577342; ComponentLink3Description: LCSC Part URL; ComponentLink3URL: https://lcsc.com/product-detail/Multilayer-Ceramic-Capacitors-MLCC---SMD-SMT_YAGEO-YAGEO-CC1812KKX7RBBB103_C577342.html
footprint CAP-1812 (1812 (4532M) Capacitor)
pins: 1, 2

## CC1812KKX7RBBB104
designator C?  Capacitance: 100nF  (hidden comment: *)
Capacitor, Ceramic (MLCC), 100nF, ±10%, 500V, X7R, ±10%, SMD 1812; Manufacturer: YAGEO; Manufacturer Part Number: CC1812KKX7RBBB104; Package Size: 1812; JLCPCB Basic Part: No; JLCPCB Part Number: C577343; Supplier 1: LCSC; Category: Capacitors - MLCC; Supplier Part Number 1: C577343; Tolerance: ±10%; Voltage Rating: 500V; Temperature Coefficient: X7R; RoHS: Yes; ComponentLink1Description: Datasheet; ComponentLink1URL: https://wmsc.lcsc.com/wmsc/upload/file/pdf/v2/lcsc/2009261809_YAGEO-CC1812KKX7RBBB104_C577343.pdf; ComponentLink2Description: JLCPCB Part URL; ComponentLink2URL: https://jlcpcb.com/partdetail/C577343; ComponentLink3Description: LCSC Part URL; ComponentLink3URL: https://lcsc.com/product-detail/Multilayer-Ceramic-Capacitors-MLCC---SMD-SMT_YAGEO-YAGEO-CC1812KKX7RBBB104_C577343.html
footprint CAP-1812 (1812 (4532M) Capacitor)
pins: 1, 2

## CC1812KKX7RBBB473
designator C?  Capacitance: 47nF  (hidden comment: *)
Capacitor, Ceramic (MLCC), 47nF, ±10%, 500V, X7R, ±10%, SMD 1812; Manufacturer: YAGEO; Manufacturer Part Number: CC1812KKX7RBBB473; Package Size: 1812; JLCPCB Basic Part: No; JLCPCB Part Number: C577344; Supplier 1: LCSC; Category: Capacitors - MLCC; Supplier Part Number 1: C577344; Tolerance: ±10%; Voltage Rating: 500V; Temperature Coefficient: X7R; RoHS: Yes; ComponentLink1Description: Datasheet; ComponentLink1URL: https://wmsc.lcsc.com/wmsc/upload/file/pdf/v2/lcsc/2204121100_YAGEO-CC1812KKX7RBBB473_C577344.pdf; ComponentLink2Description: JLCPCB Part URL; ComponentLink2URL: https://jlcpcb.com/partdetail/C577344; ComponentLink3Description: LCSC Part URL; ComponentLink3URL: https://lcsc.com/product-detail/Multilayer-Ceramic-Capacitors-MLCC---SMD-SMT_YAGEO-YAGEO-CC1812KKX7RBBB473_C577344.html
footprint CAP-1812 (1812 (4532M) Capacitor)
pins: 1, 2

## CC1812KKX7RCBB102
designator C?  Capacitance: 1nF  (hidden comment: *)
Capacitor, Ceramic (MLCC), 1nF, ±10%, 1kV, X7R, ±10%, SMD 1812; Manufacturer: YAGEO; Manufacturer Part Number: CC1812KKX7RCBB102; Package Size: 1812; JLCPCB Basic Part: No; JLCPCB Part Number: C577345; Supplier 1: LCSC; Category: Capacitors - MLCC; Supplier Part Number 1: C577345; Tolerance: ±10%; Voltage Rating: 1kV; Temperature Coefficient: X7R; RoHS: Yes; ComponentLink1Description: Datasheet; ComponentLink1URL: https://wmsc.lcsc.com/wmsc/upload/file/pdf/v2/lcsc/2204261615_YAGEO-CC1812KKX7RCBB102_C577345.pdf; ComponentLink2Description: JLCPCB Part URL; ComponentLink2URL: https://jlcpcb.com/partdetail/C577345; ComponentLink3Description: LCSC Part URL; ComponentLink3URL: https://lcsc.com/product-detail/Multilayer-Ceramic-Capacitors-MLCC---SMD-SMT_YAGEO-YAGEO-CC1812KKX7RCBB102_C577345.html
footprint CAP-1812 (1812 (4532M) Capacitor)
pins: 1, 2

## CC1812KKX7RCBB103
designator C?  Capacitance: 10nF  (hidden comment: *)
Capacitor, Ceramic (MLCC), 10nF, ±10%, 1kV, X7R, ±10%, SMD 1812; Manufacturer: YAGEO; Manufacturer Part Number: CC1812KKX7RCBB103; Package Size: 1812; JLCPCB Basic Part: No; JLCPCB Part Number: C577346; Supplier 1: LCSC; Category: Capacitors - MLCC; Supplier Part Number 1: C577346; Tolerance: ±10%; Voltage Rating: 1kV; Temperature Coefficient: X7R; RoHS: Yes; ComponentLink1Description: Datasheet; ComponentLink1URL: https://wmsc.lcsc.com/wmsc/upload/file/pdf/v2/lcsc/2008171234_YAGEO-CC1812KKX7RCBB103_C577346.pdf; ComponentLink2Description: JLCPCB Part URL; ComponentLink2URL: https://jlcpcb.com/partdetail/C577346; ComponentLink3Description: LCSC Part URL; ComponentLink3URL: https://lcsc.com/product-detail/Multilayer-Ceramic-Capacitors-MLCC---SMD-SMT_YAGEO-YAGEO-CC1812KKX7RCBB103_C577346.html
footprint CAP-1812 (1812 (4532M) Capacitor)
pins: 1, 2

## CC1812KKX7RCBB222
designator C?  Capacitance: 2.2nF  (hidden comment: *)
Capacitor, Ceramic (MLCC), 2.2nF, ±10%, 1kV, X7R, ±10%, SMD 1812; Manufacturer: YAGEO; Manufacturer Part Number: CC1812KKX7RCBB222; Package Size: 1812; JLCPCB Basic Part: No; JLCPCB Part Number: C326701; Supplier 1: LCSC; Category: Capacitors - MLCC; Supplier Part Number 1: C326701; Tolerance: ±10%; Voltage Rating: 1kV; Temperature Coefficient: X7R; RoHS: Yes; ComponentLink1Description: Datasheet; ComponentLink1URL: https://wmsc.lcsc.com/wmsc/upload/file/pdf/v2/lcsc/1811141240_YAGEO-CC1812KKX7RCBB222_C326701.pdf; ComponentLink2Description: JLCPCB Part URL; ComponentLink2URL: https://jlcpcb.com/partdetail/C326701; ComponentLink3Description: LCSC Part URL; ComponentLink3URL: https://lcsc.com/product-detail/Multilayer-Ceramic-Capacitors-MLCC---SMD-SMT_YAGEO-YAGEO-CC1812KKX7RCBB222_C326701.html
footprint CAP-1812 (1812 (4532M) Capacitor)
pins: 1, 2

## CC1812KKX7RCBB223
designator C?  Capacitance: 22nF  (hidden comment: *)
Capacitor, Ceramic (MLCC), 22nF, ±10%, 1kV, X7R, ±10%, SMD 1812; Manufacturer: YAGEO; Manufacturer Part Number: CC1812KKX7RCBB223; Package Size: 1812; JLCPCB Basic Part: No; JLCPCB Part Number: C577347; Supplier 1: LCSC; Category: Capacitors - MLCC; Supplier Part Number 1: C577347; Tolerance: ±10%; Voltage Rating: 1kV; Temperature Coefficient: X7R; RoHS: Yes; ComponentLink1Description: Datasheet; ComponentLink1URL: https://wmsc.lcsc.com/wmsc/upload/file/pdf/v2/lcsc/2204271615_YAGEO-CC1812KKX7RCBB223_C577347.pdf; ComponentLink2Description: JLCPCB Part URL; ComponentLink2URL: https://jlcpcb.com/partdetail/C577347; ComponentLink3Description: LCSC Part URL; ComponentLink3URL: https://lcsc.com/product-detail/Multilayer-Ceramic-Capacitors-MLCC---SMD-SMT_YAGEO-YAGEO-CC1812KKX7RCBB223_C577347.html
footprint CAP-1812 (1812 (4532M) Capacitor)
pins: 1, 2

## CC1812KKX7RCBB333
designator C?  Capacitance: 33nF  (hidden comment: *)
Capacitor, Ceramic (MLCC), 33nF, ±10%, 1kV, X7R, ±10%, SMD 1812; Manufacturer: YAGEO; Manufacturer Part Number: CC1812KKX7RCBB333; Package Size: 1812; JLCPCB Basic Part: No; JLCPCB Part Number: C513703; Supplier 1: LCSC; Category: Capacitors - MLCC; Supplier Part Number 1: C513703; Tolerance: ±10%; Voltage Rating: 1kV; Temperature Coefficient: X7R; RoHS: Yes; ComponentLink1Description: Datasheet; ComponentLink1URL: https://wmsc.lcsc.com/wmsc/upload/file/pdf/v2/lcsc/2005142208_YAGEO-CC1812KKX7RCBB333_C513703.pdf; ComponentLink2Description: JLCPCB Part URL; ComponentLink2URL: https://jlcpcb.com/partdetail/C513703; ComponentLink3Description: LCSC Part URL; ComponentLink3URL: https://lcsc.com/product-detail/Multilayer-Ceramic-Capacitors-MLCC---SMD-SMT_YAGEO-YAGEO-CC1812KKX7RCBB333_C513703.html
footprint CAP-1812 (1812 (4532M) Capacitor)
pins: 1, 2

## CC1812KKX7RCBB472
designator C?  Capacitance: 4.7nF  (hidden comment: *)
Capacitor, Ceramic (MLCC), 4.7nF, ±10%, 1kV, X7R, ±10%, SMD 1812; Manufacturer: YAGEO; Manufacturer Part Number: CC1812KKX7RCBB472; Package Size: 1812; JLCPCB Basic Part: No; JLCPCB Part Number: C326696; Supplier 1: LCSC; Category: Capacitors - MLCC; Supplier Part Number 1: C326696; Tolerance: ±10%; Voltage Rating: 1kV; Temperature Coefficient: X7R; RoHS: Yes; ComponentLink1Description: Datasheet; ComponentLink1URL: https://wmsc.lcsc.com/wmsc/upload/file/pdf/v2/lcsc/1811141241_YAGEO-CC1812KKX7RCBB472_C326696.pdf; ComponentLink2Description: JLCPCB Part URL; ComponentLink2URL: https://jlcpcb.com/partdetail/C326696; ComponentLink3Description: LCSC Part URL; ComponentLink3URL: https://lcsc.com/product-detail/Multilayer-Ceramic-Capacitors-MLCC---SMD-SMT_YAGEO-YAGEO-CC1812KKX7RCBB472_C326696.html
footprint CAP-1812 (1812 (4532M) Capacitor)
pins: 1, 2

## CC1812KKX7RDBB102
designator C?  Capacitance: 1nF  (hidden comment: *)
Capacitor, Ceramic (MLCC), 1nF, ±10%, 2kV, X7R, ±10%, SMD 1812; Manufacturer: YAGEO; Manufacturer Part Number: CC1812KKX7RDBB102; Package Size: 1812; JLCPCB Basic Part: No; JLCPCB Part Number: C118019; Supplier 1: LCSC; Category: Capacitors - MLCC; Supplier Part Number 1: C118019; Tolerance: ±10%; Voltage Rating: 2kV; Temperature Coefficient: X7R; RoHS: Yes; ComponentLink1Description: Datasheet; ComponentLink1URL: https://wmsc.lcsc.com/wmsc/upload/file/pdf/v2/lcsc/2007151105_YAGEO-CC1812KKX7RDBB102_C118019.pdf; ComponentLink2Description: JLCPCB Part URL; ComponentLink2URL: https://jlcpcb.com/partdetail/C118019; ComponentLink3Description: LCSC Part URL; ComponentLink3URL: https://lcsc.com/product-detail/Multilayer-Ceramic-Capacitors-MLCC---SMD-SMT_YAGEO-YAGEO-CC1812KKX7RDBB102_C118019.html
footprint CAP-1812 (1812 (4532M) Capacitor)
pins: 1, 2

## CC1812KKX7RDBB152
designator C?  Capacitance: 1.5nF  (hidden comment: *)
Capacitor, Ceramic (MLCC), 1.5nF, ±10%, 2kV, X7R, ±10%, SMD 1812; Manufacturer: YAGEO; Manufacturer Part Number: CC1812KKX7RDBB152; Package Size: 1812; JLCPCB Basic Part: No; JLCPCB Part Number: C577349; Supplier 1: LCSC; Category: Capacitors - MLCC; Supplier Part Number 1: C577349; Tolerance: ±10%; Voltage Rating: 2kV; Temperature Coefficient: X7R; RoHS: Yes; ComponentLink1Description: Datasheet; ComponentLink1URL: https://wmsc.lcsc.com/wmsc/upload/file/pdf/v2/lcsc/2204271615_YAGEO-CC1812KKX7RDBB152_C577349.pdf; ComponentLink2Description: JLCPCB Part URL; ComponentLink2URL: https://jlcpcb.com/partdetail/C577349; ComponentLink3Description: LCSC Part URL; ComponentLink3URL: https://lcsc.com/product-detail/Multilayer-Ceramic-Capacitors-MLCC---SMD-SMT_YAGEO-YAGEO-CC1812KKX7RDBB152_C577349.html
footprint CAP-1812 (1812 (4532M) Capacitor)
pins: 1, 2

## CC1812KKX7RDBB222
designator C?  Capacitance: 2.2nF  (hidden comment: *)
Capacitor, Ceramic (MLCC), 2.2nF, ±10%, 2kV, X7R, ±10%, SMD 1812; Manufacturer: YAGEO; Manufacturer Part Number: CC1812KKX7RDBB222; Package Size: 1812; JLCPCB Basic Part: No; JLCPCB Part Number: C577350; Supplier 1: LCSC; Category: Capacitors - MLCC; Supplier Part Number 1: C577350; Tolerance: ±10%; Voltage Rating: 2kV; Temperature Coefficient: X7R; RoHS: Yes; ComponentLink1Description: Datasheet; ComponentLink1URL: https://wmsc.lcsc.com/wmsc/upload/file/pdf/v2/lcsc/2006111833_YAGEO-CC1812KKX7RDBB222_C577350.pdf; ComponentLink2Description: JLCPCB Part URL; ComponentLink2URL: https://jlcpcb.com/partdetail/C577350; ComponentLink3Description: LCSC Part URL; ComponentLink3URL: https://lcsc.com/product-detail/Multilayer-Ceramic-Capacitors-MLCC---SMD-SMT_YAGEO-YAGEO-CC1812KKX7RDBB222_C577350.html
footprint CAP-1812 (1812 (4532M) Capacitor)
pins: 1, 2

## CC1812KKX7RDBB332
designator C?  Capacitance: 3.3nF  (hidden comment: *)
Capacitor, Ceramic (MLCC), 3.3nF, ±10%, 2kV, X7R, ±10%, SMD 1812; Manufacturer: YAGEO; Manufacturer Part Number: CC1812KKX7RDBB332; Package Size: 1812; JLCPCB Basic Part: No; JLCPCB Part Number: C2177264; Supplier 1: LCSC; Category: Capacitors - MLCC; Supplier Part Number 1: C2177264; Tolerance: ±10%; Voltage Rating: 2kV; Temperature Coefficient: X7R; RoHS: Yes; ComponentLink1Description: Datasheet; ComponentLink1URL: https://wmsc.lcsc.com/wmsc/upload/file/pdf/v2/lcsc/2108051830_YAGEO-CC1812KKX7RDBB332_C2177264.pdf; ComponentLink2Description: JLCPCB Part URL; ComponentLink2URL: https://jlcpcb.com/partdetail/C2177264; ComponentLink3Description: LCSC Part URL; ComponentLink3URL: https://lcsc.com/product-detail/Multilayer-Ceramic-Capacitors-MLCC---SMD-SMT_YAGEO-YAGEO-CC1812KKX7RDBB332_C2177264.html
footprint CAP-1812 (1812 (4532M) Capacitor)
pins: 1, 2

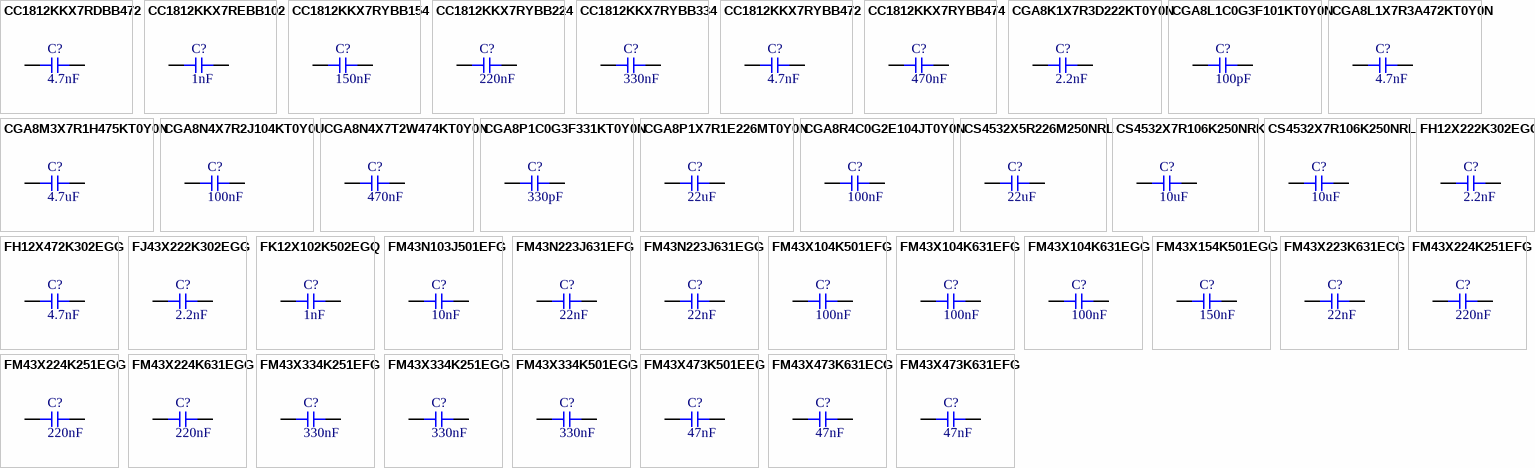
[diagram p5: symbols CC1812KKX7RDBB472 to FM43X473K631EFG]

## CC1812KKX7RDBB472
designator C?  Capacitance: 4.7nF  (hidden comment: *)
Capacitor, Ceramic (MLCC), 4.7nF, ±10%, 2kV, X7R, ±10%, SMD 1812; Manufacturer: YAGEO; Manufacturer Part Number: CC1812KKX7RDBB472; Package Size: 1812; JLCPCB Basic Part: No; JLCPCB Part Number: C309511; Supplier 1: LCSC; Category: Capacitors - MLCC; Supplier Part Number 1: C309511; Tolerance: ±10%; Voltage Rating: 2kV; Temperature Coefficient: X7R; RoHS: Yes; ComponentLink1Description: Datasheet; ComponentLink1URL: https://wmsc.lcsc.com/wmsc/upload/file/pdf/v2/lcsc/1810271054_YAGEO-CC1812KKX7RDBB472_C309511.pdf; ComponentLink2Description: JLCPCB Part URL; ComponentLink2URL: https://jlcpcb.com/partdetail/C309511; ComponentLink3Description: LCSC Part URL; ComponentLink3URL: https://lcsc.com/product-detail/Multilayer-Ceramic-Capacitors-MLCC---SMD-SMT_YAGEO-YAGEO-CC1812KKX7RDBB472_C309511.html
footprint CAP-1812 (1812 (4532M) Capacitor)
pins: 1, 2